# EAGLE library part SP3490EN-L (library Exar_By_element14_Batch_1)
Transceivers
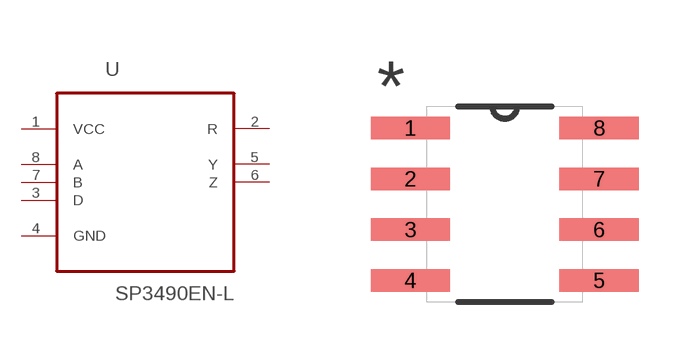
[diagram p41: symbol with the pads of SOIC127P600X175-8N; footprint SOIC127P600X175-8N]

Designator prefix U

## SP3490EN-L (MPN: SP3490EN-L; OC_FARNELL: 1758650; OC_NEWARK: 24R0525; PACKAGE: SOIC-8; SUPPLIER: Exar)  [SOIC127P600X175-8N]
1  VCC  pwr
2  R  out
3  D  in
4  GND  pas
5  Y  out
6  Z  out
7  B  in
8  A  in

## Footprint SOIC127P600X175-8N (pad centres in mm)
smd 1.981 x 0.559: 1 -2.362,1.905; 2 -2.362,0.635; 3 -2.362,-0.635; 4 -2.362,-1.905; 5 2.362,-1.905; 6 2.362,-0.635; 7 2.362,0.635; 8 2.362,1.905